# EAGLE library part 2450BM15A0015 (library imix)
Johanson Technology Balun, impedance matched for the AT86RF232 and AT86RF233 chipsets.
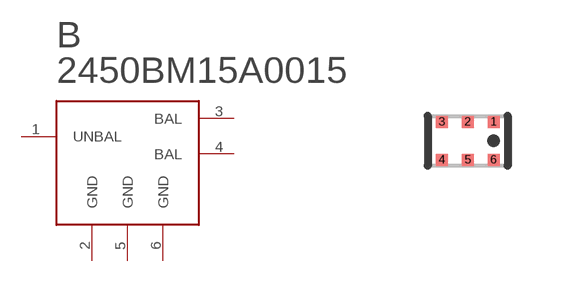
[diagram p12: symbol with the pads of BALUN0805; footprint BALUN0805]

Designator prefix B

## 2450BM15A0015  [BALUN0805]
1  UNBAL
2  GND  pwr
3  BAL
4  BAL
5  GND  pwr
6  GND  pwr

## Footprint BALUN0805 (pad centres in mm)
0805 package for the 2450BM15A0015 Balun from Johanson Technology.
smd 0.3 x 0.3: 1 1.65,1.1; 2 1,1.1; 3 0.35,1.1; 4 0.35,0.15; 5 1,0.15; 6 1.65,0.15